# Altium schematic symbol library wulpus_pro_acq_pcb.SCHLIB: 69 symbols (part 2 of 2)
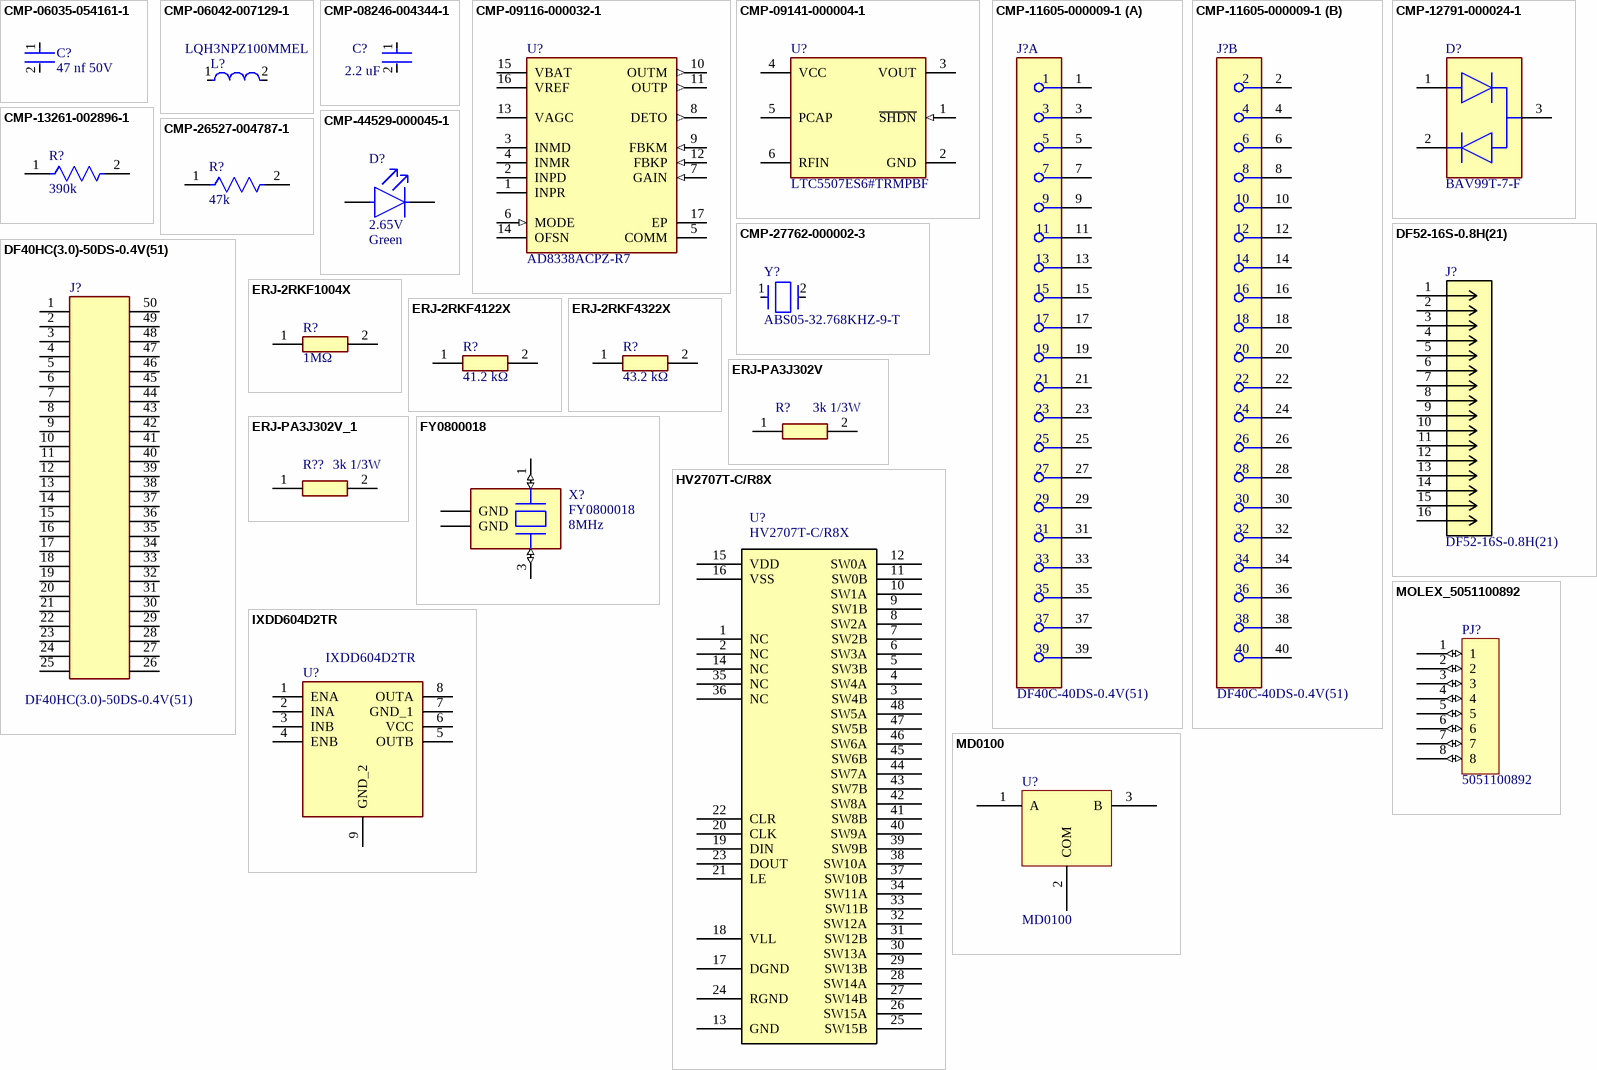
[diagram p3: symbols CMP-06035-054161-1 to MOLEX_5051100892]

## HV2707T-C/R8X
designator U?
16-CH 200V No Hv Bias Switch (SPST), 2 Bleed Resistor 48 LQFP 7X7X1.4MM T/r Rohs Compliant: Yes; Manufacturer: Microchip; Supplier 1: Digi-Key; RoHS: Yes; Category: Decoders and Multiplexers; Stock 1: 440; Pricing 1: 1=19.01000, 25=15.84720, 100=14.65500 (USD); Manufacturer Part Number: HV2707T-C/R8X
footprint LQFP48_7X7MC_MCH
footprint LQFP48_7X7MC_MCH
pins: 1 NC, 2 NC, 3 SW4B, 4 SW4A, 5 SW3B, 6 SW3A, 7 SW2B, 8 SW2A, 9 SW1B, 10 SW1A, 11 SW0B, 12 SW0A, 13 GND, 14 NC, 15 VDD, 16 VSS, 17 DGND, 18 VLL, 19 DIN, 20 CLK, 21 LE, 22 CLR, 23 DOUT, 24 RGND, 25 SW15B, 26 SW15A, 27 SW14B, 28 SW14A, 29 SW13B, 30 SW13A, 31 SW12B, 32 SW12A, 33 SW11B, 34 SW11A, 35 NC, 36 NC, 37 SW10B, 38 SW10A, 39 SW9B, 40 SW9A, 41 SW8B, 42 SW8A, 43 SW7B, 44 SW7A, 45 SW6B, 46 SW6A, 47 SW5B, 48 SW5A

## IXDD604D2TR
designator U?
Integrated Circuit; Manufacturer_Name: LITTELFUSE; Datasheet Link: http://www.ixysic.com/home/pdfs.nsf/www/IXD_604.pdf/$file/IXD_604.pdf; Height: 1mm; Manufacturer_Part_Number: IXDD604D2TR; Mouser Part Number: 849-IXDD604D2TR; Mouser Price/Stock: https://www.mouser.co.uk/ProductDetail/IXYS-Integrated-Circuits/IXDD604D2TR?qs=RF%252Bx3zajg8LeQlBgW9OO7w%3D%3D; Arrow Part Number: IXDD604D2TR; Arrow Price/Stock: https://www.arrow.com/en/products/ixdd604d2tr/ixys
footprint SON95P500X400X100-9N
pins: 1 ENA, 2 INA, 3 INB, 4 ENB, 5 OUTB, 6 VCC, 7 GND_1, 8 OUTA, 9 GND_2

## MD0100
designator U?
footprint AMP_PHA-1+
pins: 1 A, 2 COM, 3 B

## MOLEX_5051100892
designator PJ?, comment 5051100892
footprint MOLEX_5051100892
pins: 1 (io), 2 (io), 3 (io), 4 (io), 5 (io), 6 (io), 7 (io), 8 (io)

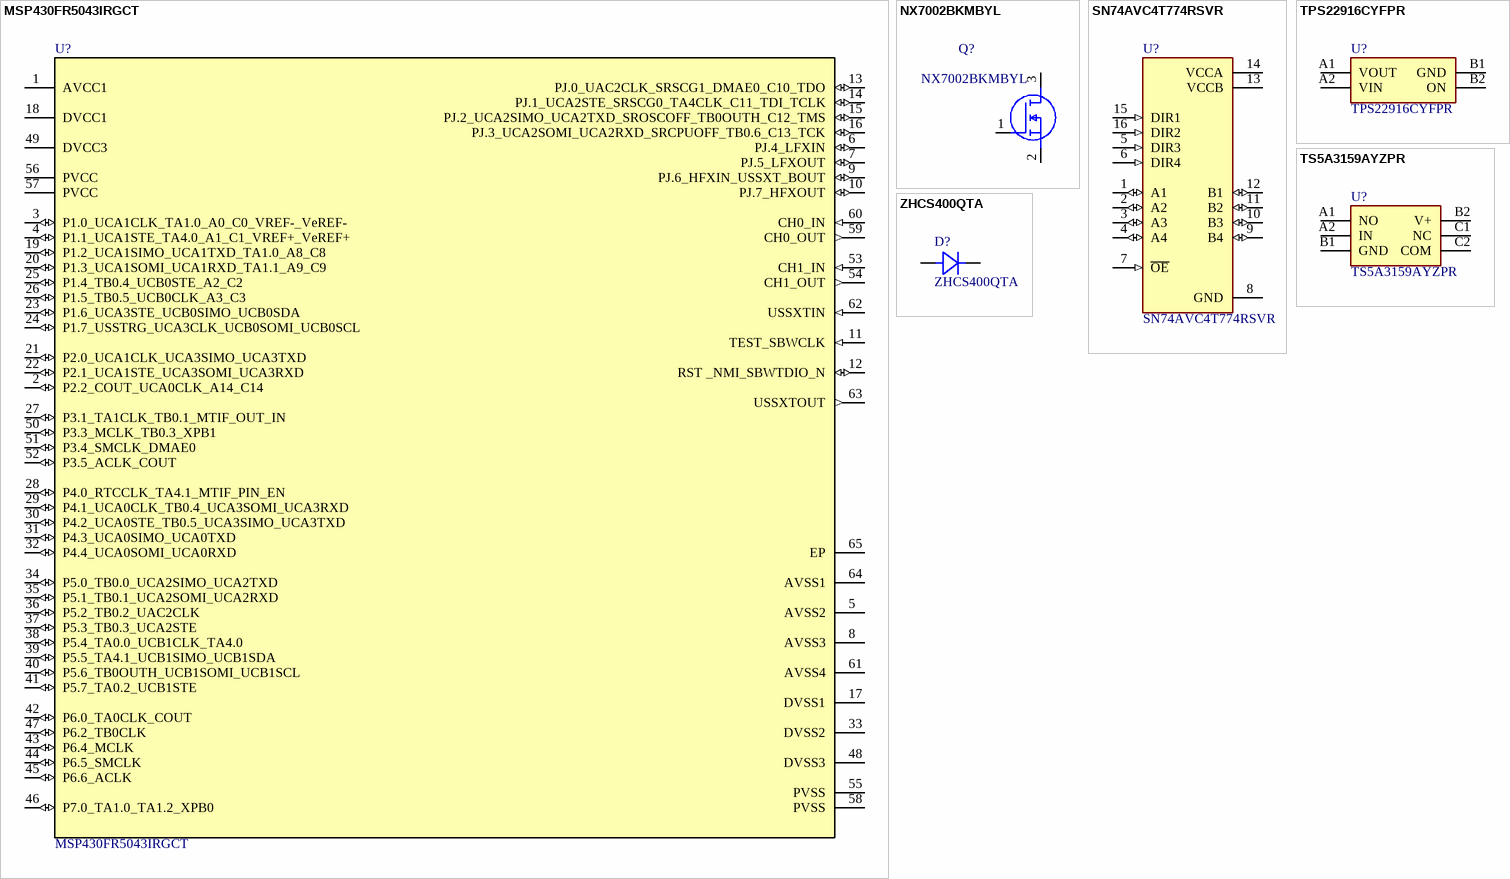
[diagram p2: symbols MSP430FR5043IRGCT to ZHCS400QTA]

## MSP430FR5043IRGCT
designator U?
No Description Available; Mfr_Name: Texas Instruments; Type: DEV; RefDes: RefDes; Copyright: Copyright (C) 2021 Ultra Librarian. All rights reserved.; Manufacturer_Part_Number: MSP430FR5043IRGCT
footprint RGC0064G
footprint RGC0064G
pins: 1 AVCC1 (power), 2 P2.2_COUT_UCA0CLK_A14_C14 (io), 3 P1.0_UCA1CLK_TA1.0_A0_C0_VREF-_VeREF- (io), 4 P1.1_UCA1STE_TA4.0_A1_C1_VREF+_VeREF+ (io), 5 AVSS2 (power), 6 PJ.4_LFXIN (io), 7 PJ.5_LFXOUT (io), 8 AVSS3 (power), 9 PJ.6_HFXIN_USSXT_BOUT (io), 10 PJ.7_HFXOUT (io), 11 TEST_SBWCLK (in), 12 RST _NMI_SBWTDIO_N (io), 13 PJ.0_UAC2CLK_SRSCG1_DMAE0_C10_TDO (io), 14 PJ.1_UCA2STE_SRSCG0_TA4CLK_C11_TDI_TCLK (io), 15 PJ.2_UCA2SIMO_UCA2TXD_SROSCOFF_TB0OUTH_C12_TMS (io), 16 PJ.3_UCA2SOMI_UCA2RXD_SRCPUOFF_TB0.6_C13_TCK (io), 17 DVSS1 (power), 18 DVCC1 (power), 19 P1.2_UCA1SIMO_UCA1TXD_TA1.0_A8_C8 (io), 20 P1.3_UCA1SOMI_UCA1RXD_TA1.1_A9_C9 (io), 21 P2.0_UCA1CLK_UCA3SIMO_UCA3TXD (io), 22 P2.1_UCA1STE_UCA3SOMI_UCA3RXD (io), 23 P1.6_UCA3STE_UCB0SIMO_UCB0SDA (io), 24 P1.7_USSTRG_UCA3CLK_UCB0SOMI_UCB0SCL (io), 25 P1.4_TB0.4_UCB0STE_A2_C2 (io), 26 P1.5_TB0.5_UCB0CLK_A3_C3 (io), 27 P3.1_TA1CLK_TB0.1_MTIF_OUT_IN (io), 28 P4.0_RTCCLK_TA4.1_MTIF_PIN_EN (io), 29 P4.1_UCA0CLK_TB0.4_UCA3SOMI_UCA3RXD (io), 30 P4.2_UCA0STE_TB0.5_UCA3SIMO_UCA3TXD (io), 31 P4.3_UCA0SIMO_UCA0TXD (io), 32 P4.4_UCA0SOMI_UCA0RXD (io), 33 DVSS2 (power), 34 P5.0_TB0.0_UCA2SIMO_UCA2TXD (io), 35 P5.1_TB0.1_UCA2SOMI_UCA2RXD (io), 36 P5.2_TB0.2_UAC2CLK (io), 37 P5.3_TB0.3_UCA2STE (io), 38 P5.4_TA0.0_UCB1CLK_TA4.0 (io), 39 P5.5_TA4.1_UCB1SIMO_UCB1SDA (io), 40 P5.6_TB0OUTH_UCB1SOMI_UCB1SCL (io), 41 P5.7_TA0.2_UCB1STE (io), 42 P6.0_TA0CLK_COUT (io), 43 P6.4_MCLK (io), 44 P6.5_SMCLK (io), 45 P6.6_ACLK (io), 46 P7.0_TA1.0_TA1.2_XPB0 (io), 47 P6.2_TB0CLK (io), 48 DVSS3 (power), 49 DVCC3 (power), 50 P3.3_MCLK_TB0.3_XPB1 (io), 51 P3.4_SMCLK_DMAE0 (io), 52 P3.5_ACLK_COUT (io), 53 CH1_IN (in), 54 CH1_OUT (out), 55 PVSS (power), 56 PVCC (power), 57 PVCC (power), 58 PVSS (power), 59 CH0_OUT (out), 60 CH0_IN (in), 61 AVSS4 (power), 62 USSXTIN (in), 63 USSXTOUT (out), 64 AVSS1 (power), 65 EP

## NX7002BKMBYL
designator Q?
MOSFET (N-Channel); Manufacturer_Name: Nexperia; Datasheet Link: https://assets.nexperia.com/documents/data-sheet/NX7002BKMB.pdf; Height: 0.4mm; Manufacturer_Part_Number: NX7002BKMBYL; Mouser Part Number: 771-NX7002BKMBYL; Mouser Price/Stock: https://www.mouser.co.uk/ProductDetail/Nexperia/NX7002BKMBYL?qs=%252BRKXB2WKlSdBDdfwQeVqTQ%3D%3D; Arrow Part Number: NX7002BKMBYL; Arrow Price/Stock: https://www.arrow.com/en/products/nx7002bkmbyl/nexperia?region=nac
footprint NX7002BKMBYL
pins: 1 G, 2 S, 3 D

## SN74AVC4T774RSVR
designator U?
Voltage Level Translator Bidirectional 1 Circuit 4 Channel 380Mbps 16-UQFN _2.6x1.8_; MF: Texas Instruments; MP: SN74AVC4T774RSVR; DigiKey-Purchase-URL: https://snapeda.com/shop?store=DigiKey&id=192411; SnapEDA_Link: https://www.snapeda.com/parts/SN74AVC4T774RSVR/Texas%20Instruments/view-part/192411/?ref=snap; Digi-Key_Part_Number: 296-24741-1-ND; Package: UQFN-16 Texas Instruments; Value: *
footprint QFN40P260X180X55-16N
pins: 1 A1 (io), 2 A2 (io), 3 A3 (io), 4 A4 (io), 5 DIR3 (in), 6 DIR4 (in), 7 ~{OE} (in), 8 GND (power), 9 B4 (io), 10 B3 (io), 11 B2 (io), 12 B1 (io), 13 VCCB (power), 14 VCCA (power), 15 DIR1 (in), 16 DIR2 (in)

## TPS22916CYFPR
designator U?
TPS22916 5.5-V, 2-A Ultra-Low Leakage Load Switch; Manufacturer_Name: Texas Instruments; Geometry.Height: 0.5mm; Manufacturer_Part_Number: TPS22916CYFPR; Arrow Part Number: TPS22916CYFPR; Arrow Price/Stock: https://www.arrow.com/en/products/tps22916cyfpr/texas-instruments?utm_currency=USD&region=nac; Datasheet Link: http://www.ti.com/lit/gpn/tps22916
footprint BGA4C40P2X2_78X78X50
pins: A1 VOUT, A2 VIN, B1 GND, B2 ON

## TS5A3159AYZPR
designator U?
Analogue Switch ICs SPDT ANALOG SWITCH; Manufacturer_Name: Texas Instruments; Geometry.Height: 0.5mm; Manufacturer_Part_Number: TS5A3159AYZPR; Arrow Part Number: TS5A3159AYZPR; Arrow Price/Stock: https://www.arrow.com/en/products/ts5a3159ayzpr/texas-instruments?utm_currency=USD&region=nac; Datasheet Link: https://www.ti.com/lit/ds/symlink/ts5a3159a.pdf?ts=1623385377964&ref_url=https%253A%252F%252Fwww.ti.com%252Fproduct%252FTS5A3159A
footprint BGA6C50P2X3_89X139X50
pins: A1 NO, A2 IN, B1 GND, B2 V+, C1 NC, C2 COM

## ZHCS400QTA
designator D?
Diode Schottky 40V 1A Automotive 2-Pin SOD-323 T/R; Manufacturer: Diodes; Supplier 1: Farnell; RoHS: Yes; Category: Rectifier Diodes; Stock 1: 385; Pricing 1: 5=0.87300, 10=0.73400, 100=0.49400, 500=0.38800 (CHF); Mount: Surface Mount; Packaging: Tape and Reel; Average Rectified Current: 1A; Max Reverse Voltage (DC): 40V; RoHS Compliant: Yes; ComponentLink1URL: http://www.mouser.com/ds/2/115/ZHCS400Q-959646.pdf?src-supplier=Mouser; ComponentLink1Description: http://www.mouser.com/ds/2/115/ZHCS400Q-959646.pdf?src-supplier=Mouser; Supplier Part Number 1: 3127490; Manufacturer Part Number: ZHCS400QTA
footprint DIODE_SOD323_DIO
footprint DIODE_SOD323_DIO
pins: 1, 2